# Altium footprint library Connector-Header.PcbLib: 107 footprints (part 2 of 7)
Each footprint in its own frame and in the unit in brackets; x right, y up, seen from the top. Pads: shape width x height; smd on the part's side, far side on the other; paste and mask are expansions set on the pad; w line width, h text height; cw(c..) or ccw(c..) is an arc to the next point about the centre after c.
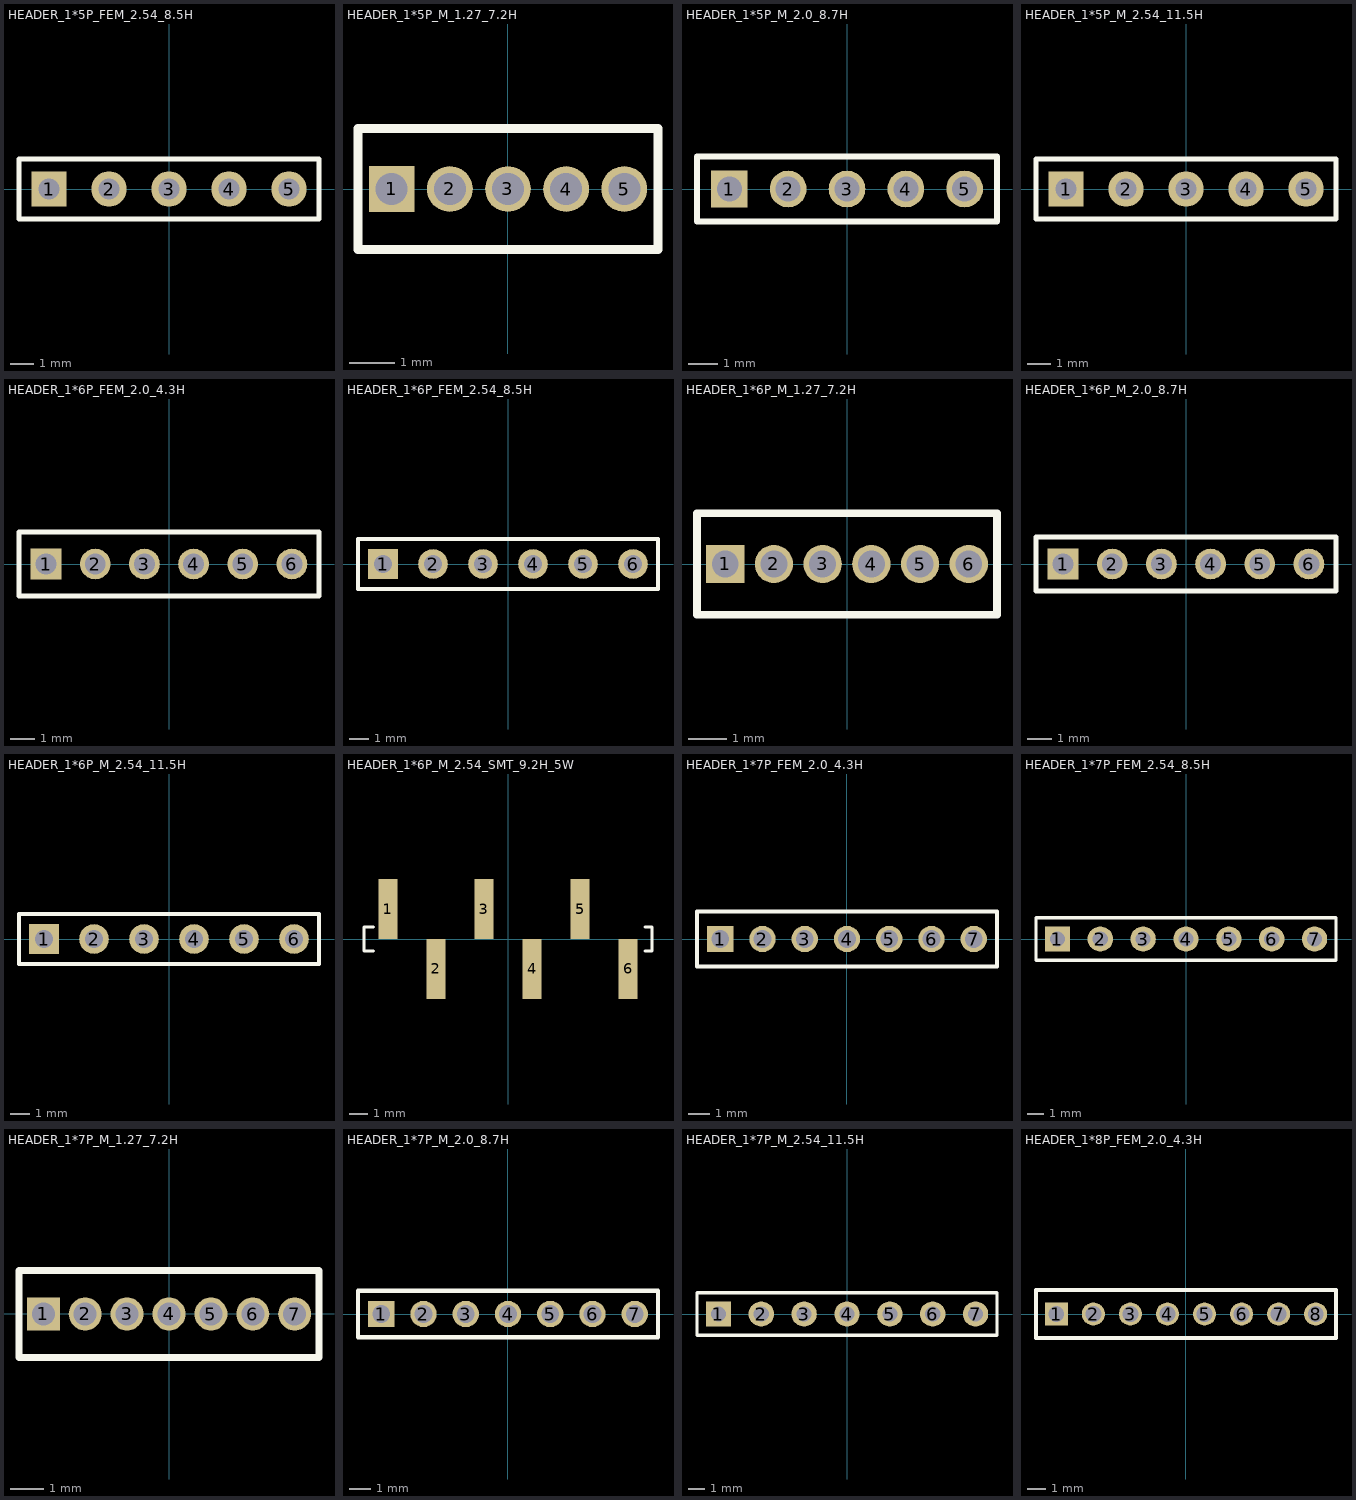
[diagram p1: the footprints below, top view; thin cyan lines are the x and y axes]

## HEADER_1*5P_FEM_2.54_8.5H [mm] "Connector; Header; 5 Position"
pads (5):
  rect 1.5x1.5 hole 0.9: 1(-5.08,0)
  round 1.5 hole 0.9: 2(-2.54,0) 3(0,0) 4(2.54,0) 5(5.08,0)
Top Overlay:
  lines w0.2: -6.35,-1.27 6.35,-1.27 6.35,1.27 -6.35,1.27 -6.35,-1.27
3D body "Header_Female_5Pin.STEP": height 6.02, standoff -3.1, extent -6.35,-1.27 6.35,1.27

## HEADER_1*5P_M_1.27_7.2H [mm]
pads (5):
  rect 1x1 hole 0.7: 1(-2.54,0)
  round 1 hole 0.7: 2(-1.27,0) 3(0,0) 4(1.27,0) 5(2.54,0)
Top Overlay:
  lines w0.203: -3.277,-1.321 3.277,-1.321 3.277,1.321 -3.277,1.321 -3.277,-1.321

## HEADER_1*5P_M_2.0_8.7H [mm]
pads (5):
  rect 1.25x1.25 hole 0.85: 1(-4,0)
  round 1.25 hole 0.85: 2(-2,0) 3(0,0) 4(2,0) 5(4,0)
Top Overlay:
  lines w0.203: -5.1,-1.1 5.1,-1.1 5.1,1.1 -5.1,1.1 -5.1,-1.1

## HEADER_1*5P_M_2.54_11.5H [mm] "Connector; Header; 5 Position"
pads (5):
  rect 1.5x1.5 hole 0.9: 1(-5.08,0)
  round 1.5 hole 0.9: 2(-2.54,0) 3(0,0) 4(2.54,0) 5(5.08,0)
Top Overlay:
  lines w0.2: -6.35,-1.27 -6.35,1.27 6.35,1.27 6.35,-1.27 -6.35,-1.27
3D body "User Library-Header_Male_5Pin.STEP": height 8.54, standoff -3, extent -6.35,-1.245 6.35,1.245

## HEADER_1*6P_FEM_2.0_4.3H [mm]
pads (6):
  rect 1.25x1.25 hole 0.85: 1(-5,0)
  round 1.25 hole 0.85: 2(-3,0) 3(-1,0) 4(1,0) 5(3,0) 6(5,0)
Top Overlay:
  lines w0.203: -6.1,-1.3 -6.1,1.3 6.1,1.3 6.1,-1.3 -6.1,-1.3

## HEADER_1*6P_FEM_2.54_8.5H [mm] "Connector; Header; 6 Position"
pads (6):
  rect 1.5x1.5 hole 0.9: 1(-6.35,0)
  round 1.5 hole 0.9: 2(-3.81,0) 3(-1.27,0) 4(1.27,0) 5(3.81,0) 6(6.35,0)
Top Overlay:
  lines w0.2: -7.62,-1.27 7.62,-1.27 7.62,1.27 -7.62,1.27 -7.62,-1.27

## HEADER_1*6P_M_1.27_7.2H [mm]
pads (6):
  rect 1x1 hole 0.7: 1(-3.175,0)
  round 1 hole 0.7: 2(-1.905,0) 3(-0.635,0) 4(0.635,0) 5(1.905,0) 6(3.175,0)
Top Overlay:
  lines w0.203: -3.912,-1.321 3.912,-1.321 3.912,1.321 -3.912,1.321 -3.912,-1.321

## HEADER_1*6P_M_2.0_8.7H [mm]
pads (6):
  rect 1.25x1.25 hole 0.85: 1(-5,0)
  round 1.25 hole 0.85: 2(-3,0) 3(-1,0) 4(1,0) 5(3,0) 6(5,0)
Top Overlay:
  lines w0.203: -6.1,-1.1 6.1,-1.1 6.1,1.1 -6.1,1.1 -6.1,-1.1

## HEADER_1*6P_M_2.54_11.5H [mm] "Connector; Header; 6 Position"
pads (6):
  rect 1.5x1.5 hole 0.9: 1(-6.35,0)
  round 1.5 hole 0.9: 2(-3.81,0) 3(-1.27,0) 4(1.27,0) 5(3.81,0) 6(6.35,0)
Top Overlay:
  lines w0.2: -7.62,-1.27 7.62,-1.27 7.62,1.27 -7.62,1.27 -7.62,-1.27
3D body "Header_Male_6Pin.STEP": height 8.54, standoff -3, extent -7.62,-1.245 7.62,1.245

## HEADER_1*6P_M_2.54_SMT_9.2H_5W [mm]
pads (6):
  rect 1.02x3.17 smd: 1(-6.35,1.585) 2(-3.81,-1.585) 3(-1.27,1.585) 4(1.27,-1.585) 5(3.81,1.585) 6(6.35,-1.585)
Top Overlay:
  lines w0.152: -7.112,-0.635 -7.62,-0.635 -7.62,0.635 -7.112,0.635 ; 7.239,-0.635 7.62,-0.635 7.62,0.635 7.239,0.635

## HEADER_1*7P_FEM_2.0_4.3H [mm]
pads (7):
  rect 1.25x1.25 hole 0.85: 1(-6,0)
  round 1.25 hole 0.85: 2(-4,0) 3(-2,0) 4(0,0) 5(2,0) 6(4,0) 7(6,0)
Top Overlay:
  lines w0.203: -7.1,-1.3 -7.1,1.3 7.1,1.3 7.1,-1.3 -7.1,-1.3

## HEADER_1*7P_FEM_2.54_8.5H [mm] "Connector; Header; 7 Position"
pads (7):
  rect 1.5x1.5 hole 0.9: 1(-7.62,0)
  round 1.5 hole 0.9: 2(-5.08,0) 3(-2.54,0) 4(0,0) 5(2.54,0) 6(5.08,0) 7(7.62,0)
Top Overlay:
  lines w0.2: -8.89,-1.27 8.89,-1.27 8.89,1.27 -8.89,1.27 -8.89,-1.27

## HEADER_1*7P_M_1.27_7.2H [mm]
pads (7):
  rect 1x1 hole 0.7: 1(-3.81,0)
  round 1 hole 0.7: 2(-2.54,0) 3(-1.27,0) 4(0,0) 5(1.27,0) 6(2.54,0) 7(3.81,0)
Top Overlay:
  lines w0.203: -4.547,-1.321 4.547,-1.321 4.547,1.321 -4.547,1.321 -4.547,-1.321

## HEADER_1*7P_M_2.0_8.7H [mm]
pads (7):
  rect 1.25x1.25 hole 0.85: 1(-6,0)
  round 1.25 hole 0.85: 2(-4,0) 3(-2,0) 4(0,0) 5(2,0) 6(4,0) 7(6,0)
Top Overlay:
  lines w0.203: -7.1,-1.1 -7.1,1.1 7.1,1.1 7.1,-1.1 -7.1,-1.1

## HEADER_1*7P_M_2.54_11.5H [mm] "Connector; Header; 7 Position"
pads (7):
  rect 1.5x1.5 hole 0.9: 1(-7.62,0)
  round 1.5 hole 0.9: 2(-5.08,0) 3(-2.54,0) 4(0,0) 5(2.54,0) 6(5.08,0) 7(7.62,0)
Top Overlay:
  lines w0.2: -8.89,-1.27 8.89,-1.27 8.89,1.27 -8.89,1.27 -8.89,-1.27
3D body "Header_Male_7Pin.STEP": height 8.54, standoff -3, extent -8.89,-1.245 8.89,1.245

## HEADER_1*8P_FEM_2.0_4.3H [mm]
pads (8):
  rect 1.25x1.25 hole 0.85: 1(-7,0)
  round 1.25 hole 0.85: 2(-5,0) 3(-3,0) 4(-1,0) 5(1,0) 6(3,0) 7(5,0) 8(7,0)
Top Overlay:
  lines w0.203: -8.1,-1.3 -8.1,1.3 8.1,1.3 8.1,-1.3 -8.1,-1.3